# EAGLE library part TH8056KDC* (library can)
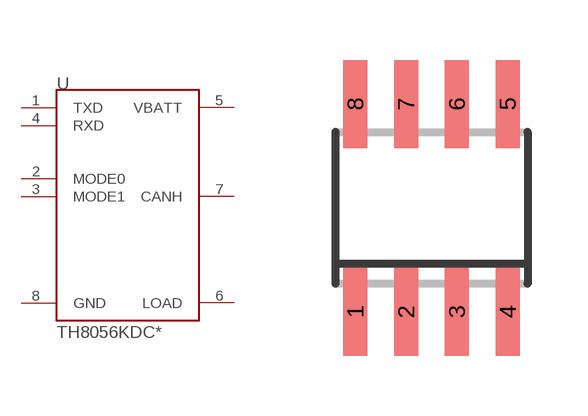
[diagram p3: symbol with the pads of SO8; footprint SO8]

Designator prefix U

## TH8056KDCA8  [SO8]
1  TXD
2  MODE0
3  MODE1
4  RXD
5  VBATT
6  LOAD
7  CANH
8  GND

## Footprint SO8 (pad centres in mm)
8-Lead Small Outline IC (SO-8) Source: http://www.analog.com/UploadedFiles/Data_Sheets/703465986AD8611_2_0.pdf
smd 0.6 x 2.2: 1 -1.905,-2.6; 2 -0.635,-2.6; 3 0.635,-2.6; 4 1.905,-2.6; 5 1.905,2.6; 6 0.635,2.6; 7 -0.635,2.6; 8 -1.905,2.6